# Altium schematic symbol library Transistors.SchLib: 24 symbols
Pins are listed as number, name and electrical type; pins without a type are passive.

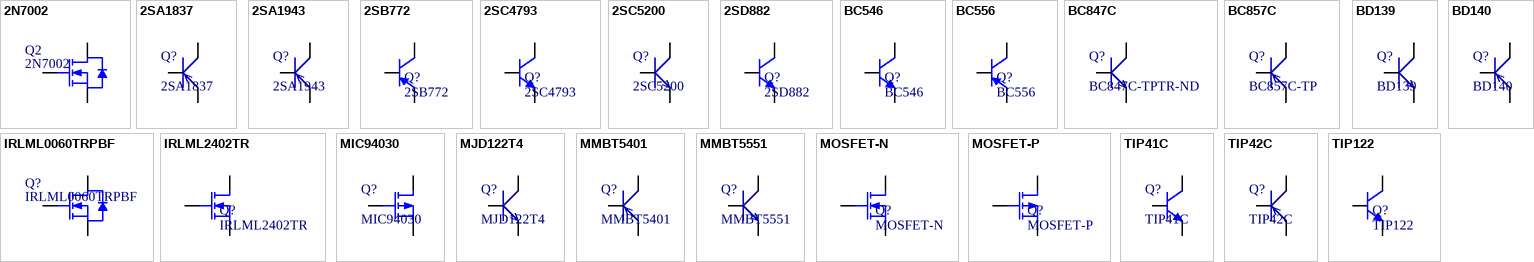
[diagram p0: symbols 2N7002 to TIP122]

## 2N7002
designator Q2
N-channel Enhancement Mode Field-effect Transistor; Published: 17-Sep-2003; LatestRevisionDate: 12-Dec-2006; LatestRevisionNote: IPC-7351 Footprint Added.; DatasheetVersion: 27-Jul-2000; PackageVersion: May-1999; PackageReference: SOT23; Publisher: Altium Limited; PackageDescription: 3-Pin SOT-23 Package 0.95 mm Pitch, 2.3 mm Lead Span; ComponentLink1Description: Manufacturer Link; ComponentLink1URL: http://www.semiconductors.philips.com/; ComponentLink2Description: Datasheet; ComponentLink2URL: http://www.semiconductors.philips.com/acrobat/datasheets/2N7002_4.pdf
simulation model 2N7002 (SUBCKT)
footprint SOT-23 Pol (SOT23, 3-Leads, Body 3,0x2,6mm (max), Pitch 0,95mm, IPC Medium Density)
pins: D, G, S

## 2SA1837
designator Q?
PNP transistor
footprint TO220_BCE
footprint TO220_BCE_HORIZONTAL
pins: B 0, C 1, E 2

## 2SA1943
designator Q?
PNP transistor
footprint TO264_horizontal
pins: B 0, C 1, E 2

## 2SB772
designator Q?
PNP General Purpose Amplifier; Published: 8-Jun-2000; LatestRevisionDate: 15-Jan-2003; LatestRevisionNote: PCB Footprint 'BCY-W3/D4.7' replaced; DatasheetVersion: 1997; PackageVersion: Sep-1998; PackageReference: TO-92A; Publisher: Altium Limited; PackageDescription: TO, Flat Index; 3 In-Line, Axial Leads; Body Dia. 4.5mm; Leads 0.51 x 0.48 mm (max); ComponentLink1Description: Manufacturer Link; ComponentLink1URL: http://www.fairchildsemi.com/; ComponentLink2Description: Datasheet; ComponentLink2URL: http://www.fairchildsemi.com/ds/2N%2F2N3906.pdf
footprint TO126_ECB
pins: B, C, E

## 2SC4793
designator Q?
NPN General Purpose Amplifier; Published: 8-Jun-2000; LatestRevisionDate: 15-Jan-2003; LatestRevisionNote: PCB Footprint 'BCY-W3/D4.7' replaced; DatasheetVersion: 1997; PackageVersion: Sep-1998; PackageReference: TO-92A; Publisher: Altium Limited; PackageDescription: TO, Flat Index; 3 In-Line, Axial Leads; Body Dia. 4.5mm; Leads 0.51 x 0.48 mm (max); ComponentLink1Description: Manufacturer Link; ComponentLink1URL: http://www.fairchildsemi.com/; ComponentLink2Description: Datasheet; ComponentLink2URL: http://www.fairchildsemi.com/ds/2N%2F2N3904.pdf
footprint TO220_BCE
pins: B, C, E

## 2SC5200
designator Q?
NPN transistor
footprint TO264
footprint TO264_horizontal
pins: B 0, C 1, E 2

## 2SD882
designator Q?
NPN General Purpose Amplifier; Published: 8-Jun-2000; LatestRevisionDate: 15-Jan-2003; LatestRevisionNote: PCB Footprint 'BCY-W3/D4.7' replaced; DatasheetVersion: 1997; PackageVersion: Sep-1998; PackageReference: TO-92A; Publisher: Altium Limited; PackageDescription: TO, Flat Index; 3 In-Line, Axial Leads; Body Dia. 4.5mm; Leads 0.51 x 0.48 mm (max); ComponentLink1Description: Manufacturer Link; ComponentLink1URL: http://www.fairchildsemi.com/; ComponentLink2Description: Datasheet; ComponentLink2URL: http://www.fairchildsemi.com/ds/2N%2F2N3904.pdf
footprint TO126_ECB
pins: B, C, E

## BC546
designator Q?
NPN General Purpose Amplifier; Published: 8-Jun-2000; LatestRevisionDate: 15-Jan-2003; LatestRevisionNote: PCB Footprint 'BCY-W3/D4.7' replaced; DatasheetVersion: 1997; PackageVersion: Sep-1998; PackageReference: TO-92A; Publisher: Altium Limited; PackageDescription: TO, Flat Index; 3 In-Line, Axial Leads; Body Dia. 4.5mm; Leads 0.51 x 0.48 mm (max); ComponentLink1Description: Manufacturer Link; ComponentLink1URL: http://www.fairchildsemi.com/; ComponentLink2Description: Datasheet; ComponentLink2URL: http://www.fairchildsemi.com/ds/2N%2F2N3904.pdf
footprint TO-92_CBE_2.5mm
pins: B, C, E

## BC556
designator Q?
PNP General Purpose Amplifier; Published: 8-Jun-2000; LatestRevisionDate: 15-Jan-2003; LatestRevisionNote: PCB Footprint 'BCY-W3/D4.7' replaced; DatasheetVersion: 1997; PackageVersion: Sep-1998; PackageReference: TO-92A; Publisher: Altium Limited; PackageDescription: TO, Flat Index; 3 In-Line, Axial Leads; Body Dia. 4.5mm; Leads 0.51 x 0.48 mm (max); ComponentLink1Description: Manufacturer Link; ComponentLink1URL: http://www.fairchildsemi.com/; ComponentLink2Description: Datasheet; ComponentLink2URL: http://www.fairchildsemi.com/ds/2N%2F2N3906.pdf
footprint TO-92_CBE_2.5mm
pins: B, C, E

## BC847C
designator Q?, comment BC847C-TPTR-ND
TRANS NPN 45V 0.1A SOT23; Current - Collector (Ic) (Max): 100mA; Vce Saturation (Max) @ Ib, Ic: 500mV @ 5mA, 100mA; DC Current Gain (hFE) (Min) @ Ic, Vce: 420 @ 2mA, 5V; Power - Max: 225mW; Frequency - Transition: 100MHz; Transistor Type: NPN; Voltage - Collector Emitter Breakdown (Max): 45V; Package / Case: TO-236-3, SC-59, SOT-23-3; Supplier Device Package: SOT-23; Supplier Part Number: BC847C-TPTR-ND
footprint SOT-23 Bi (SOT23, 3-Leads, Body 3,0x2,6mm (max), Pitch 0,95mm, IPC Medium Density)
pins: B 0, C 1, E 2

## BC857C
designator Q?, comment BC857C-TP
TRANS PNP 45V 0.1A SOT-23; Power - Max: 310mW; Frequency - Transition: 200MHz; Vce Saturation (Max) @ Ib, Ic: 650mV @ 5mA, 100mA; Current - Collector (Ic) (Max): 100mA; DC Current Gain (hFE) (Min) @ Ic, Vce: 420 @ 2mA, 5V; Voltage - Collector Emitter Breakdown (Max): 45V; Manufacturer Part Number: BC857C-TP; Transistor Type: PNP; Package / Case: TO-236-3, SC-59, SOT-23-3
footprint SOT-23 Bi (SOT23, 3-Leads, Body 3,0x2,6mm (max), Pitch 0,95mm, IPC Medium Density)
pins: B 0, C 1, E 2

## BD139
designator Q?
NPN transistor
footprint TO126_ECB
footprint TO126_ECB_horizontal
pins: B 0, C 1, E 2

## BD140
designator Q?
PNP transistor
footprint TO126_ECB
footprint TO126_ECB_horizontal
pins: B 0, C 1, E 2

## IRLML0060TRPBF
designator Q?
MOSFET MOSFT 60V 2.7A 92mOhm 2.5nC Qg; Brand: International Rectifier; Pd - Power Dissipation: 1.25 W; Rds On - Drain-Source Resistance: 116 mOhms; Vgs - Gate-Source Breakdown Voltage: 16 V; ComponentLink2Description: Datasheet; ComponentLink2URL: http://www.rcscomponents.kiev.ua/modules.php?name=Datasheet&fl=1&dsfname=http%3A%2F%2Fwww.irf.com%2Fproduct-info%2Fdatasheets%2Fdata%2FirLML0060pbf.pdf; Manufacturer Part Number: IRLML0060TRPBF; Package / Case: SOT-23-3; Id - Continuous Drain Current: 2.7 A; Vds - Drain-Source Breakdown Voltage: 60 V
simulation model 2N7002 (SUBCKT)
footprint SOT-23 Pol (SOT23, 3-Leads, Body 3,0x2,6mm (max), Pitch 0,95mm, IPC Medium Density)
pins: D, G, S

## IRLML2402TR
designator Q?
N-Channel MOSFET IRLML2402TR; Published: 8-Jun-2000; LatestRevisionDate: 17-Jul-2002; LatestRevisionNote: Re-released for DXP Platform.; PackageVersion: 1995/1996; PackageReference: E3; Publisher: Altium Limited; PackageDescription: TO, Flat Index; 3 In-Line, Axial Leads; Body Dia. 4.6mm; Lead Dia. 0.5 mm (max)
simulation model NMOS (MOSFET-N)
footprint SOT-23 Pol (SOT23, 3-Leads, Body 3,0x2,6mm (max), Pitch 0,95mm, IPC Medium Density)
pins: D, G, S

## MIC94030
designator Q?
MOSFET P-CH 16V 1A SOT-143; FET Type: MOSFET P-Channel, Metal Oxide; Rds On (Max) @ Id, Vgs: 450 mOhm @ 100mA, 10V; Vgs(th) (Max) @ Id: 1.4V @ 250µA; Input Capacitance (Ciss) @ Vds: 100pF @ 12V; Power - Max: 568mW; Supplier Device Package: SOT-143; Value: MIC94030; ComponentLink1URL: http://www.micrel.com/_PDF/mic94030.pdf; ComponentLink1Description: Datasheet
footprint SOT143 (SOT143, 4-Leads, Body 2,92x2,37mm, Pitch 1,90mm, IPC Medium Density)
pins: D, G, S

## MJD122T4
designator Q?
Transistors Darlington NPN Power Darlington; Collector- Base Voltage VCBO: 100 V; Emitter- Base Voltage VEBO: 5 V; Brand: STMicroelectronics; Maximum Collector Cut-off Current: 10 uA; Maximum DC Collector Current: 5 A; Category: Transistors Darlington; Manufacturer Part Number: MJD122T4; Collector- Emitter Voltage VCEO Max: 100 V; Mounting Style: SMD/SMT; Transistor Polarity: NPN; Maximum Operating Temperature: + 150 C
footprint D-PAK (D-PAK, 3-Pads, Body 6,2x6,7mm (max), IPC Medium Density)
pins: 1 0, 3 2, 4 1

## MMBT5401
designator Q?
PNP transistor
footprint SOT-23 Bi (SOT23, 3-Leads, Body 3,0x2,6mm (max), Pitch 0,95mm, IPC Medium Density)
pins: B 0, C 1, E 2

## MMBT5551
designator Q?
NPN transistor
footprint SOT-23 Bi (SOT23, 3-Leads, Body 3,0x2,6mm (max), Pitch 0,95mm, IPC Medium Density)
pins: B 0, C 1, E 2

## MOSFET-N
designator Q?
N-Channel MOSFET; Published: 8-Jun-2000; LatestRevisionDate: 17-Jul-2002; LatestRevisionNote: Re-released for DXP Platform.; PackageVersion: 1995/1996; PackageReference: E3; Publisher: Altium Limited; PackageDescription: TO, Flat Index; 3 In-Line, Axial Leads; Body Dia. 4.6mm; Lead Dia. 0.5 mm (max)
simulation model NMOS (MOSFET-N)
footprint SOT-23 Pol (SOT23, 3-Leads, Body 3,0x2,6mm (max), Pitch 0,95mm, IPC Medium Density)
pins: D, G, S

## MOSFET-P
designator Q?
P-Channel MOSFET; Published: 8-Jun-2000; LatestRevisionDate: 17-Jul-2002; LatestRevisionNote: Re-released for DXP Platform.; PackageVersion: 1995/1996; PackageReference: E3; Publisher: Altium Limited; PackageDescription: TO, Flat Index; 3 In-Line, Axial Leads; Body Dia. 4.6mm; Lead Dia. 0.5 mm (max)
simulation model PMOS (MOSFET-P)
footprint SOT-23 Pol (SOT23, 3-Leads, Body 3,0x2,6mm (max), Pitch 0,95mm, IPC Medium Density)
pins: D, G, S

## TIP41C
designator Q?
NPN TRANSISTOR 100V 6A; Manufacturer Part Number: TIP41C-S; Vce Saturation (Max) @ Ib, Ic: 1.5V @ 600mA, 6A; Power - Max: 2W; Package / Case: TO-220-3; Supplier Device Package: TO-220; Transistor Type: NPN; Category: Discrete Semiconductor Products; Current - Collector (Ic) (Max): 6A; Supplier Part Number: TIP41C-S-ND
footprint TO220_BCE
pins: B, C, E

## TIP42C
designator Q?
TRANS PNP GP 100V 6A TO-220; Frequency - Transition: 3MHz; Vce Saturation (Max) @ Ib, Ic: 1.5V @ 600mA, 6A; Power - Max: 2W; Category: Discrete Semiconductor Products; Transistor Type: PNP; Package / Case: TO-220-3; Supplier Device Package: TO-220; Voltage - Collector Emitter Breakdown (Max): 100V; Current - Collector (Ic) (Max): 6A
footprint TO220_BCE
pins: B 0, C 1, E 2

## TIP122
designator Q?
NPN General Purpose Amplifier; Published: 8-Jun-2000; LatestRevisionDate: 15-Jan-2003; LatestRevisionNote: PCB Footprint 'BCY-W3/D4.7' replaced; DatasheetVersion: 1997; PackageVersion: Sep-1998; PackageReference: TO-92A; Publisher: Altium Limited; PackageDescription: TO, Flat Index; 3 In-Line, Axial Leads; Body Dia. 4.5mm; Leads 0.51 x 0.48 mm (max); ComponentLink1Description: Manufacturer Link; ComponentLink1URL: http://www.fairchildsemi.com/; ComponentLink2Description: Datasheet; ComponentLink2URL: http://www.fairchildsemi.com/ds/2N%2F2N3904.pdf
footprint TO220_BCE
pins: B, C, E